# Altium schematic symbol library GavinPCBLib.SchLib: 21 symbols
Pins are listed as number, name and electrical type; pins without a type are passive.

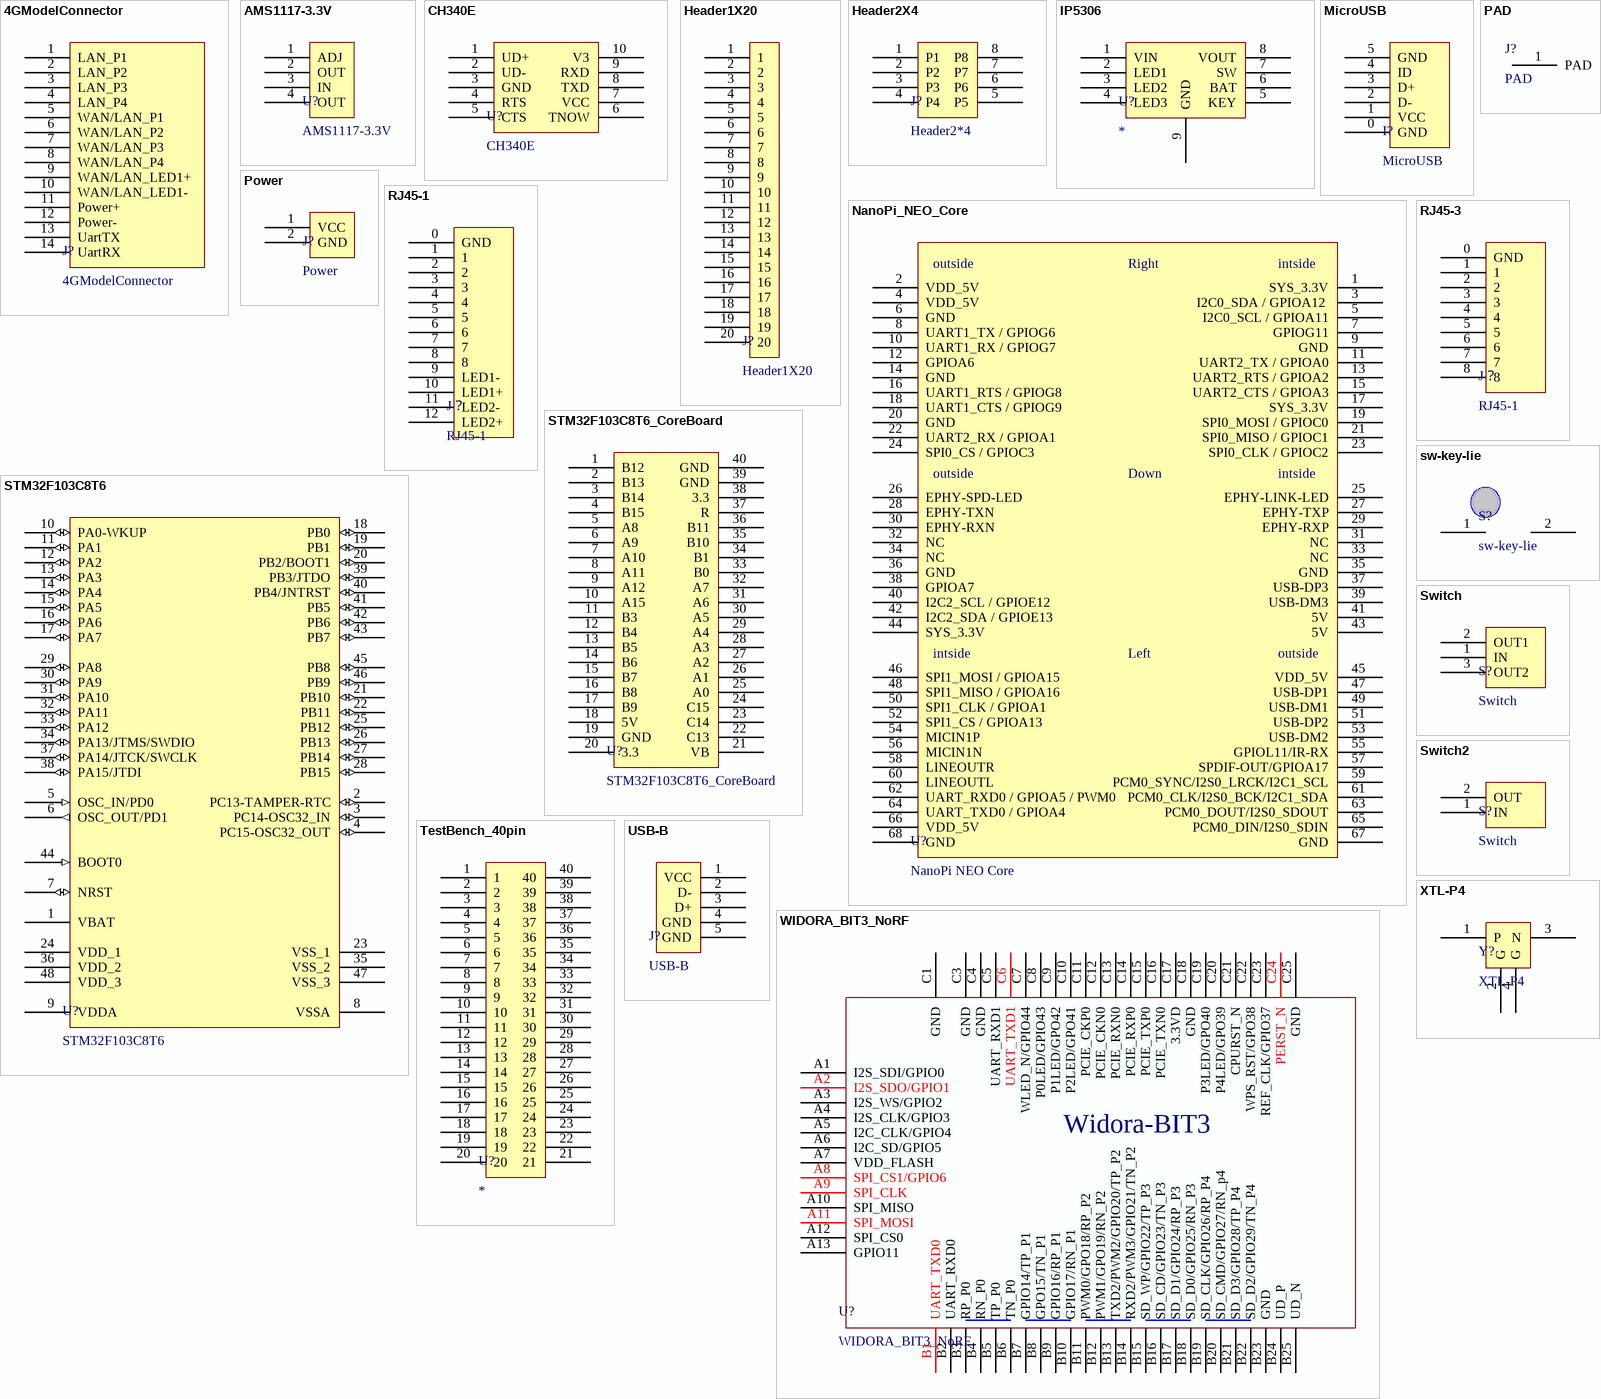
[diagram p0: symbols 4GModelConnector to XTL-P4]

## 4GModelConnector
designator J?
pins: 1 LAN_P1, 2 LAN_P2, 3 LAN_P3, 4 LAN_P4, 5 WAN/LAN_P1, 6 WAN/LAN_P2, 7 WAN/LAN_P3, 8 WAN/LAN_P4, 9 WAN/LAN_LED1+, 10 WAN/LAN_LED1-, 11 Power+, 12 Power-, 13 UartTX, 14 UartRX

## AMS1117-3.3V
designator U?
footprint SOT-223
pins: 1 ADJ, 2 OUT, 3 IN, 4 OUT

## CH340E
designator U?
footprint MSOP-10
pins: 1 UD+, 2 UD-, 3 GND, 4 RTS, 5 CTS, 6 TNOW, 7 VCC, 8 TXD, 9 RXD, 10 V3

## Header1X20
designator J?
footprint HDR2.54-1X20
pins: 1, 2, 3, 4, 5, 6, 7, 8, 9, 10, 11, 12, 13, 14, 15, 16, 17, 18, 19, 20

## Header2X4
designator J?, comment Header2*4
pins: 1 P1, 2 P2, 3 P3, 4 P4, 5 P5, 6 P6, 7 P7, 8 P8

## IP5306
designator U?
footprint SOP8
footprint eSOP8
pins: 1 VIN, 2 LED1, 3 LED2, 4 LED3, 5 KEY, 6 BAT, 7 SW, 8 VOUT, 9 GND

## MicroUSB
designator I?
footprint MicroUSB
pins: 0 GND, 1 VCC, 2 D-, 3 D+, 4 ID, 5 GND

## NanoPi_NEO_Core
designator U?, comment NanoPi NEO Core
footprint NanoPi_NEO_Core
footprint NanoPi_NEO_Core2
pins: 1 SYS_3.3V, 2 VDD_5V, 3 I2C0_SDA / GPIOA12 , 4 VDD_5V, 5 I2C0_SCL / GPIOA11, 6 GND, 7 GPIOG11, 8 UART1_TX / GPIOG6, 9 GND, 10 UART1_RX / GPIOG7, 11 UART2_TX / GPIOA0, 12 GPIOA6, 13 UART2_RTS / GPIOA2, 14 GND, 15 UART2_CTS / GPIOA3, 16 UART1_RTS / GPIOG8, 17 SYS_3.3V, 18 UART1_CTS / GPIOG9, 19 SPI0_MOSI / GPIOC0, 20 GND, 21 SPI0_MISO / GPIOC1, 22 UART2_RX / GPIOA1, 23 SPI0_CLK / GPIOC2, 24 SPI0_CS / GPIOC3, 25 EPHY-LINK-LED, 26 EPHY-SPD-LED, 27 EPHY-TXP, 28 EPHY-TXN, 29 EPHY-RXP, 30 EPHY-RXN, 31 NC, 32 NC, 33 NC, 34 NC, 35 GND, 36 GND, 37 USB-DP3, 38 GPIOA7, 39 USB-DM3, 40 I2C2_SCL / GPIOE12, 41 5V, 42 I2C2_SDA / GPIOE13, 43 5V, 44 SYS_3.3V, 45 VDD_5V, 46 SPI1_MOSI / GPIOA15, 47 USB-DP1, 48 SPI1_MISO / GPIOA16, 49 USB-DM1, 50 SPI1_CLK / GPIOA1, 51 USB-DP2, 52 SPI1_CS / GPIOA13, 53  USB-DM2, 54 MICIN1P, 55 GPIOL11/IR-RX, 56 MICIN1N, 57 SPDIF-OUT/GPIOA17, 58 LINEOUTR, 59 PCM0_SYNC/I2S0_LRCK/I2C1_SCL, 60 LINEOUTL, 61 PCM0_CLK/I2S0_BCK/I2C1_SDA, 62 UART_RXD0 / GPIOA5 / PWM0, 63 PCM0_DOUT/I2S0_SDOUT, 64 UART_TXD0 / GPIOA4, 65 PCM0_DIN/I2S0_SDIN, 66 VDD_5V, 67 GND, 68 GND
text: outside; Right; intside; Down; Left

## PAD
designator J?
footprint PAD
pins: 1 PAD

## Power
designator J?
footprint Power
pins: 1 VCC, 2 GND

## RJ45-1
designator J？
footprint RG45-1
pins: 0 GND, 1, 2, 3, 4, 5, 6, 7, 8, 9 LED1-, 10 LED1+, 11 LED2-, 12 LED2+

## RJ45-3
designator J？, comment RJ45-1
footprint RG45-3
pins: 0 GND, 1, 2, 3, 4, 5, 6, 7, 8

## STM32F103C8T6
designator U?
footprint LQPF48_N
pins: 1 VBAT (power), 2 PC13-TAMPER-RTC (io), 3 PC14-OSC32_IN (io), 4 PC15-OSC32_OUT (io), 5 OSC_IN/PD0 (in), 6 OSC_OUT/PD1 (out), 7 NRST (io), 8 VSSA (power), 9 VDDA (power), 10 PA0-WKUP (io), 11 PA1 (io), 12 PA2 (io), 13 PA3 (io), 14 PA4 (io), 15 PA5 (io), 16 PA6 (io), 17 PA7 (io), 18 PB0 (io), 19 PB1 (io), 20 PB2/BOOT1 (io), 21 PB10 (io), 22 PB11 (io), 23 VSS_1 (power), 24 VDD_1 (power), 25 PB12 (io), 26 PB13 (io), 27 PB14 (io), 28 PB15 (io), 29 PA8 (io), 30 PA9 (io), 31 PA10 (io), 32 PA11 (io), 33 PA12 (io), 34 PA13/JTMS/SWDIO (io), 35 VSS_2 (power), 36 VDD_2 (power), 37 PA14/JTCK/SWCLK (io), 38 PA15/JTDI (io), 39 PB3/JTDO (io), 40 PB4/JNTRST (io), 41 PB5 (io), 42 PB6 (io), 43 PB7 (io), 44 BOOT0 (in), 45 PB8 (io), 46 PB9 (io), 47 VSS_3 (power), 48 VDD_3 (power)

## STM32F103C8T6_CoreBoard
designator U?
pins: 1 B12, 2 B13, 3 B14, 4 B15, 5 A8, 6 A9, 7 A10, 8 A11, 9 A12, 10 A15, 11 B3, 12 B4, 13 B5, 14 B6, 15 B7, 16 B8, 17 B9, 18 5V, 19 GND, 20 3.3, 21 VB, 22 C13, 23 C14, 24 C15, 25 A0, 26 A1, 27 A2, 28 A3, 29 A4, 30 A5, 31 A6, 32 A7, 33 B0, 34 B1, 35 B10, 36 B11, 37 R, 38 3.3, 39 GND, 40 GND

## sw-key-lie
designator S?
footprint Key_lie
pins: 1, 2

## Switch
designator S?
footprint SwitchA
pins: 1 IN, 2 OUT1, 3 OUT2

## Switch2
designator S?, comment Switch
footprint SwitchA2
pins: 1 IN, 2 OUT

## TestBench_40pin
designator U?
footprint DIP40
pins: 1, 2, 3, 4, 5, 6, 7, 8, 9, 10, 11, 12, 13, 14, 15, 16, 17, 18, 19, 20, 21, 22, 23, 24, 25, 26, 27, 28, 29, 30, 31, 32, 33, 34, 35, 36, 37, 38, 39, 40

## USB-B
designator J?
pins: 1 VCC, 2 D-, 3 D+, 4 GND, 5 GND

## WIDORA_BIT3_NoRF
designator U?
footprint WIDORA_BIT3_NoRF
pins: A1 I2S_SDI/GPIO0, A2 I2S_SDO/GPIO1, A3 I2S_WS/GPIO2, A4 I2S_CLK/GPIO3, A5 I2C_CLK/GPIO4, A6 I2C_SD/GPIO5, A7 VDD_FLASH, A8 SPI_CS1/GPIO6, A9 SPI_CLK, A10 SPI_MISO, A11 SPI_MOSI, A12 SPI_CS0, A13 GPIO11, B1 UART_TXD0, B2 UART_RXD0, B3 RP_P0, B4 RN_P0, B5 TP_P0, B6 TN_P0, B7 GPIO14/TP_P1, B8 GPO15/TN_P1, B9 GPIO16/RP_P1, B10 GPIO17/RN_P1, B11 PWM0/GPO18/RP_P2, B12 PWM1/GPO19/RN_P2, B13 TXD2/PWM2/GPIO20/TP_P2, B14 RXD2/PWM3/GPIO21/TN_P2, B15 SD_WP/GPIO22/TP_P3, B16 SD_CD/GPIO23/TN_P3, B17 SD_D1/GPIO24/RP_P3, B18 SD_D0/GPIO25/RN_P3, B19 SD_CLK/GPIO26/RP_P4, B20 SD_CMD/GPIO27/RN_p4, B21 SD_D3/GPIO28/TP_P4, B22 SD_D2/GPIO29/TN_P4, B23 GND, B24 UD_P, B25 UD_N, C1 GND, C3 GND, C4 GND, C5 UART_RXD1, C6 UART_TXD1, C7 WLED_N/GPIO44, C8 P0LED/GPIO43, C9 P1LED/GPO42, C10 P2LED/GPO41, C11 PCIE_CKP0, C12 PCIE_CKN0, C13 PCIE_RXN0, C14 PCIE_RXP0, C15 PCIE_TXP0, C16 PCIE_TXN0, C17 3.3VD, C18 GND, C19 P3LED/GPO40, C20 P4LED/GPO39, C21 CPURST_N, C22 WPS_RST/GPO38, C23 REF_CLK/GPIO37, C24 PERST_N, C25 GND
text: Widora-BIT3

## XTL-P4
designator Y?
footprint X3225
pins: 1 P, 2 G, 3 N, 4 G